# EAGLE library part 1.27_10POL_HEADER (library eCVT_Library)
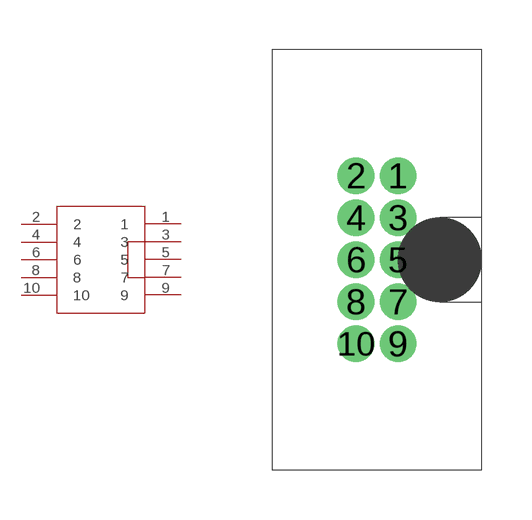
[diagram p0: symbol with the pads of 2X5_1.27MM_THRU; footprint 2X5_1.27MM_THRU]

Designator prefix CON

## 1.27_10POL_HEADER  [2X5_1.27MM_THRU]
1  1
2  2
3  3
4  4
5  5
6  6
7  7
8  8
9  9
10  10

## Footprint 2X5_1.27MM_THRU (pad centres in mm)
drill 0.6: 1 1.27,0; 2 0,0; 3 1.27,-1.27; 4 0,-1.27; 5 1.27,-2.54; 6 0,-2.54; 7 1.27,-3.81; 8 0,-3.81; 9 1.27,-5.08; 10 0,-5.08